# Altium schematic symbol library MCP2517FD.SchLib: 1 symbol
Pins are listed as number, name and electrical type; pins without a type are passive.

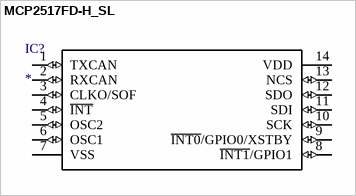
[diagram p0: symbol MCP2517FD-H_SL]

## MCP2517FD-H_SL
designator IC?
Integrated Circuit; Manufacturer_Name: Microchip; Manufacturer_Part_Number: MCP2517FD-H/SL; Datasheet Link: https://componentsearchengine.com/Datasheets/2/MCP2517FD-H_SL.pdf; Height: 1.75mm; Mouser Part Number: 579-MCP2517FD-H/SL; Mouser Price/Stock: https://www.mouser.com/Search/Refine.aspx?Keyword=579-MCP2517FD-H%2FSL; RS Part Number: 1793997; RS Price/Stock: https://uk.rs-online.com/web/p/products/1793997
footprint SOIC127P600X175-14N
pins: 1 TXCAN (io), 2 RXCAN (io), 3 CLKO/SOF (io), 4 ~{INT} (io), 5 OSC2 (io), 6 OSC1 (io), 7 VSS (power), 8 ~{INT1}/GPIO1 (io), 9 ~{INT0}/GPIO0/XSTBY (io), 10 SCK (io), 11 SDI (io), 12 SDO (io), 13 NCS (io), 14 VDD (power)